# Altium schematic symbol library Schlib1.SchLib: 11 symbols
Pins are listed as number, name and electrical type; pins without a type are passive.

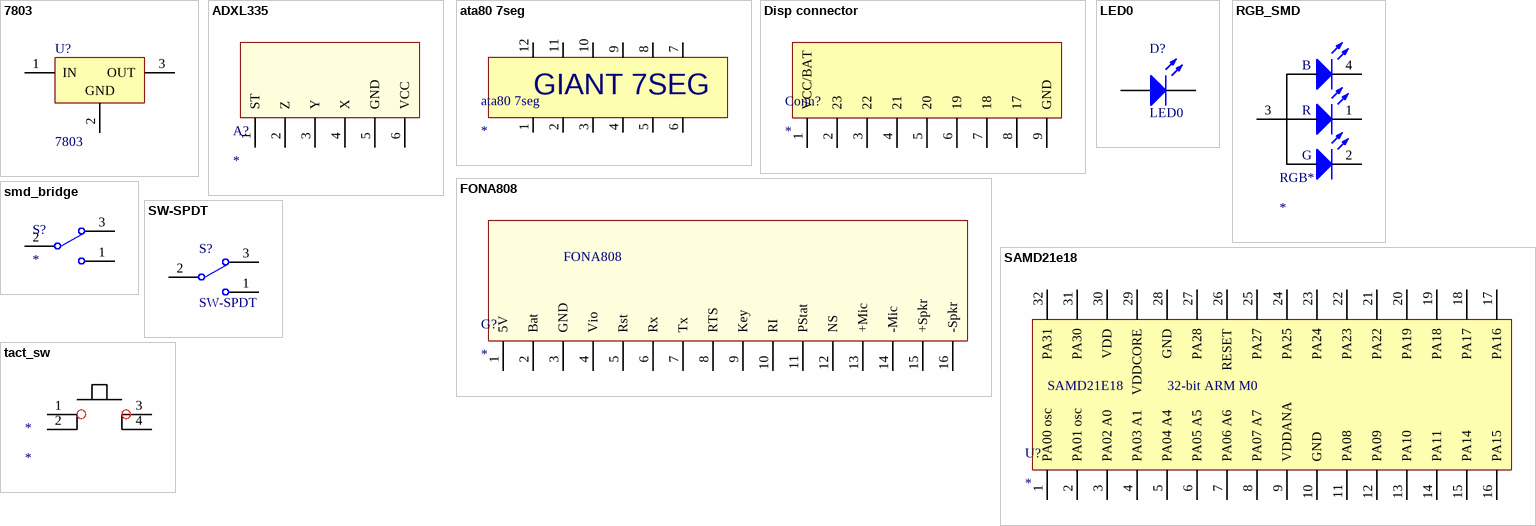
[diagram p0: symbols 7803 to tact_sw]

## 7803
designator U?
3-Terminal Positive Fixed Voltage Regulator; Note: Pin 2 is electrically connected to TAB; Published: 17-Jul-2002; DatasheetVersion: 1988; PackageReference: 221A-04; Publisher: Altium Limited; PackageDescription: TO, Thru-Hole, Vertical, Heatsink Mounted; 3 In-Line Leads; Pitch 2.54 mm; Code_JEDEC: TO-262-AA; ComponentLink1Description: Manufacturer Link; ComponentLink1URL: http://www.onsemi.com/site/products/taxonomy/0,4438,503,00.html; ComponentLink2Description: Datasheet; ComponentLink2URL: http://www.onsemi.com/pub/Collateral/MC7800-D.PDF
footprint 221A-04 (Footprint not found)
pins: 1 IN (power), 2 GND (power), 3 OUT (power)

## ADXL335
designator A?
footprint ADXL
pins: 1 ST, 2 Z, 3 Y, 4 X, 5 GND, 6 VCC

## ata80 7seg
designator ata80 7seg
footprint 7seg_foot
pins: 1, 2, 3, 4, 5, 6, 7, 8, 9, 10, 11, 12
text: GIANT 7SEG

## Disp connector
designator Conn?
footprint 9pin 2.54
pins: 1 VCC/BAT, 2 23, 3 22, 4 21, 5 20, 6 19, 7 18, 8 17, 9 GND

## FONA808
designator G?
footprint FONA808
pins: 1 5V, 2 Bat, 3 GND, 4 Vio, 5 Rst, 6 Rx, 7 Tx, 8 RTS, 9 Key, 10 RI, 11 PStat, 12 NS, 13 +Mic, 14 -Mic, 15 +Spkr, 16 -Spkr

## LED0
designator D?
Typical INFRARED GaAs LED; Published: 8-Jun-2000; LatestRevisionDate: 08-Jul-2005; LatestRevisionNote: Mech Layer 1 removed.; PackageReference: LED-0; Publisher: Altium Limited; PackageDescription: LED; 2 Leads
footprint LED-0 (LED; 2 Leads)
simulation model LED0 (Diode)
pins: 1 A, 2 K

## RGB_SMD
designator RGB*
footprint SMD_RGB
pins: 1 R, 2 K, 3 A, 4 K
text: B; G

## SAMD21e18
designator U?
footprint TQFP32_N (32-Pin Thin Quad Flat Pack 0.8 mm Pitch, IPC Medium Density)
pins: 1 PA00 osc, 2 PA01 osc, 3 PA02 A0, 4 PA03 A1, 5 PA04 A4, 6 PA05 A5, 7 PA06 A6, 8 PA07 A7, 9 VDDANA, 10 GND, 11 PA08, 12 PA09, 13 PA10, 14 PA11, 15 PA14, 16 PA15, 17 PA16, 18 PA17, 19 PA18, 20 PA19, 21 PA22, 22 PA23, 23 PA24, 24 PA25, 25 PA27, 26 RESET, 27 PA28, 28 GND, 29 VDDCORE, 30 VDD, 31 PA30, 32 PA31
text: SAMD21E18; 32-bit ARM M0

## smd_bridge
designator S?
footprint SMD_BRIDGE (SMD 2012-0805)
pins: 1, 2, 3

## SW-SPDT
designator S?
SPDT Subminiature Toggle Switch, Right Angle Mounting, Vertical Actuation; Published: 24-Mar-1999; LatestRevisionDate: 17-Dec-2003; LatestRevisionNote: Schematic revised, PCB Footprint replaced.; DatasheetVersion: 05-Dec-2000; PackageReference: TL36WW15050; Publisher: Altium Limited; PackageDescription: Switch; 4 Leads; ComponentLink1Description: Manufacturer Link; ComponentLink1URL: http://www.apem.com
footprint SW-SPDT2.54mm
pins: 1, 2, 3

## tact_sw
designator *
footprint pcb_sw; pin to pad 2>1 3>2 4>2
pins: 1, 2, 3, 4